# EAGLE library part S16B-XH (library con-jst-xh)
JST XH series header 2.50mm pitch disconnectable crimp style connectors, horizontal (side entry type), 16 pins
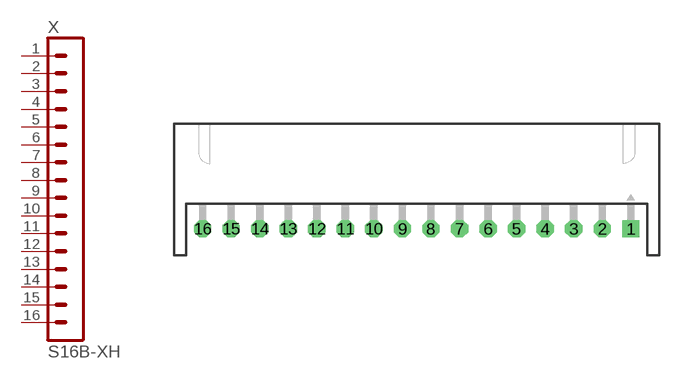
[diagram p22: symbol with the pads of S16B-XH-A; footprint S16B-XH-A]

Designator prefix X

## S16B-XH-A  [S16B-XH-A]
1  1  pas
2  2  pas
3  3  pas
4  4  pas
5  5  pas
6  6  pas
7  7  pas
8  8  pas
9  9  pas
10  10  pas
11  11  pas
12  12  pas
13  13  pas
14  14  pas
15  15  pas
16  16  pas

## Footprint S16B-XH-A (pad centres in mm)
JST XH series header 2.50mm pitch disconnectable crimp style connectors, horizontal (side entry type), 16 pins
drill 0.9 pad 1.524 square: 1 18.75,0
drill 0.9 pad 1.524 octagon: 2 16.25,0; 3 13.75,0; 4 11.25,0; 5 8.75,0; 6 6.25,0; 7 3.75,0; 8 1.25,0; 9 -1.25,0; 10 -3.75,0; 11 -6.25,0; 12 -8.75,0; 13 -11.25,0; 14 -13.75,0; 15 -16.25,0; 16 -18.75,0